# Altium integrated library cornell-dubilier.IntLib: 5 symbols
Pins are listed as number, name and electrical type; pins without a type are passive.

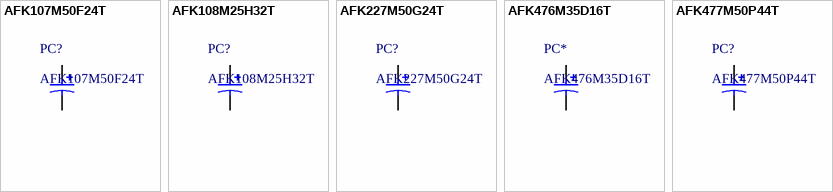
[diagram p0: symbols AFK107M50F24T to AFK477M50P44T]

## AFK107M50F24T
designator PC?
100 uF, Electrolytics, 50 V
footprint F (F Size, Polarized, SMD Capacitor)
pins: 1, 2

## AFK108M25H32T
designator PC?
1000 uF, Electrolytics, 25 V
footprint H (H Size, Polarized, SMD Capacitor)
pins: 1, 2

## AFK227M50G24T
designator PC?
220 uF, Electrolytics, 50 V
footprint G (G Size, Polarized, SMD Capacitor)
pins: 1, 2

## AFK476M35D16T
designator PC*
47 uF, Electrolytics, 35 V
footprint D (D Size, Polarized, SMD Capacitor)
pins: 1, 2

## AFK477M50P44T
designator PC?
470 uF, Electrolytics, 50 V
footprint P (P Size, Polarized, SMD Capacitor)
pins: 1, 2